# Altium footprint library PcbLib_RomanK.PcbLib: 21 footprints (part 2 of 2)
Each footprint in its own frame and in the unit in brackets; x right, y up, seen from the top. Pads: shape width x height; smd on the part's side, far side on the other; paste and mask are expansions set on the pad; w line width, h text height; cw(c..) or ccw(c..) is an arc to the next point about the centre after c.
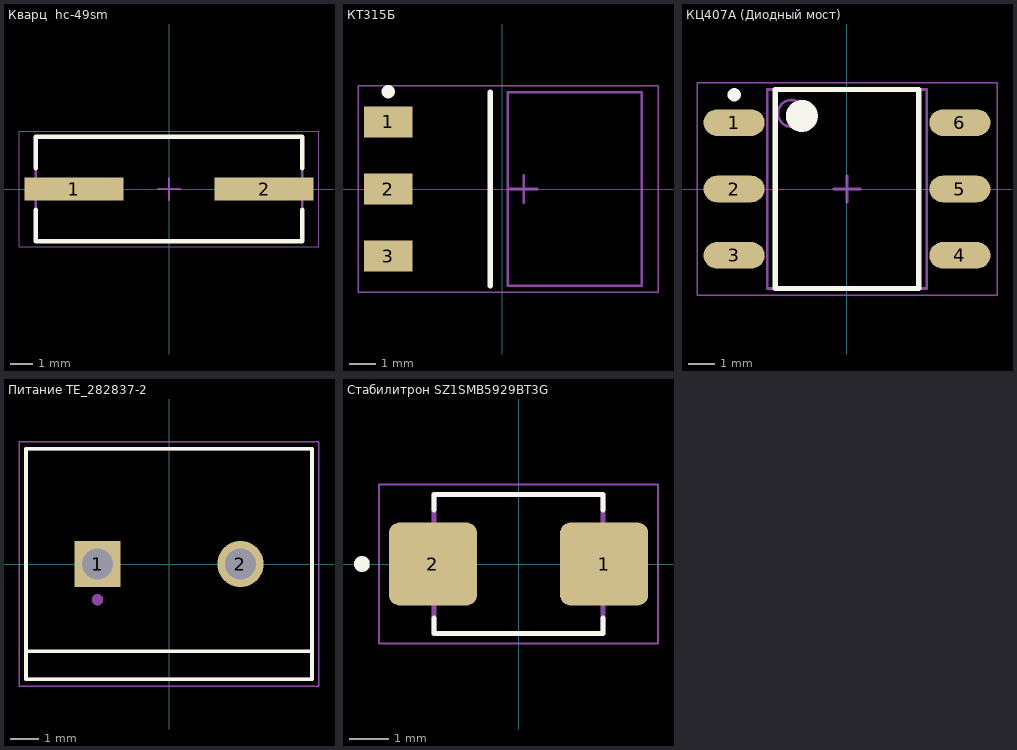
[diagram p1: the footprints below, top view; thin cyan lines are the x and y axes]

## Кварц  hc-49sm [mm] "4.000 МГц HC-49SM, Кварцевый резонатор"
height 5
pads (2):
  rect 4.45x1.05 smd: 1(-4.275,0) 2(4.275,0)
Top Overlay:
  lines w0.2: -6,-0.925 -6,-2.35 6,-2.35 6,-0.925 ; -6,0.925 -6,2.35 6,2.35 6,0.925
Mechanical 13:
  lines w0.1: -6,-2.35 -6,2.35 6,2.35 6,-2.35 -6,-2.35
Mechanical 15:
  lines w0.05: -6.75,-2.6 -6.75,2.6 6.75,2.6 6.75,-2.6 -6.75,-2.6
  lines w0.1: -0.5,0 0.5,0 ; 0,-0.5 0,0.5
3D body: height 5, standoff 0, extent -6,-2.35 6,2.35

## КТ315Б [mm] "TO, 4-Pads, Body 5,60x6,96mm (max), IPC Medium Density"
height 3
pads (3):
  rect 1.8x1.15 smd: 1(-4.25,2.5) 2(-4.25,0) 3(-4.25,-2.5)
Top Overlay:
  circle w0.25: c-4.25,3.625 r0.125
  lines w0.2: -0.45,-3.6 -0.45,3.6
Mechanical 13:
  lines w0.1: 0.2,-3.6 5.2,-3.6 5.2,3.6 0.2,3.6 0.2,-3.6
Mechanical 15:
  lines w0.05: -5.375,-3.85 5.8,-3.85 5.8,3.85 -5.375,3.85 -5.375,-3.85
  lines w0.1: 0.3,0 1.3,0 ; 0.8,-0.5 0.8,0.5
3D body: height 3, standoff 0, extent 0.2,-3.6 5.2,3.6

## КЦ407А (Диодный мост) [mm] "CFP, 6-Leads, Body 7,50x6,00mm (max), Pitch 2,50mm, IPC Medium Density"
height 3
pads (6):
  oval 2.3x1 smd: 1(-4.25,2.5) 2(-4.25,0) 3(-4.25,-2.5) 4(4.25,-2.5) 5(4.25,0) 6(4.25,2.5)
Top Overlay:
  circle w0.6: c-1.7,2.75 r0.3
  circle w0.25: c-4.25,3.55 r0.125
  lines w0.2: -2.7,-3.75 -2.7,3.75 2.7,3.75 2.7,-3.75 -2.7,-3.75
Mechanical 13:
  circle w0.1: c-2.1,2.85 r0.5
  lines w0.1: -3,-3.75 -3,3.75 3,3.75 3,-3.75 -3,-3.75
Mechanical 15:
  lines w0.05: -5.65,-4 -5.65,4 5.65,4 5.65,-4 -5.65,-4
  lines w0.1: -0.5,0 0.5,0 ; 0,-0.5 0,0.5
3D body: height 3, standoff 0.1, extent -3,-3.75 3,3.75

## Питание TE_282837-2 [mm] "282837-2 Connector Terminal Blocks Receptacle 2 Position 5.08mm Solder Straight Thru-Hole 13.5A/Contact"
pads (2):
  rect 1.65x1.65 / inner round 1.65 / far side rect 1.65x1.65 hole 1.1: 1(-2.54,0)
  round 1.65 hole 1.1: 2(2.54,0)
Top Overlay:
  lines w0.127: -5.08,-3.1 -5.08,-4.1 5.08,-4.1 5.08,-3.1 ; -5.08,-3.1 -5.08,4.1 5.08,4.1 5.08,-3.1 ; -5.08,-3.1 5.08,-3.1
Mechanical 13:
  circle w0.2: c-2.54,-1.27 r0.1
  lines w0.127: -5.08,-4.1 5.08,-4.1 5.08,4.1 -5.08,4.1 -5.08,-4.1
Mechanical 15:
  lines w0.05: -5.33,-4.35 5.33,-4.35 5.33,4.35 -5.33,4.35 -5.33,-4.35
3D body "step_temp.STEP": height 10, standoff -3.5, extent -5.68,-4.1 5.08,4.1

## Стабилитрон SZ1SMB5929BT3G [mm] "Zener Diode 15 V 3 W ±5% Surface Mount SMB"
pads (2):
  rrect25% 2.25x2.12 smd: 1(2.185,0) 2(-2.185,0)
Top Overlay:
  circle w0.2: c-4,0 r0.1
  lines w0.127: -2.16,-1.374 -2.16,-1.78 2.16,-1.78 2.16,-1.374 ; -2.16,1.374 -2.16,1.78 2.16,1.78 2.16,1.374
Mechanical 13:
  circle w0.2: c-4,0 r0.1
  lines w0.127: -2.16,-1.78 -2.16,1.78 2.16,1.78 2.16,-1.78 -2.16,-1.78
Mechanical 15:
  lines w0.05: -3.56,-2.03 3.56,-2.03 3.56,2.03 -3.56,2.03 -3.56,-2.03
3D body "SZ1SMB5929BT3G.STEP": height 2.48, standoff 0.01, extent -2.72,-1.78 2.72,1.78